# EAGLE library part MMA3202KEG (library gipi)
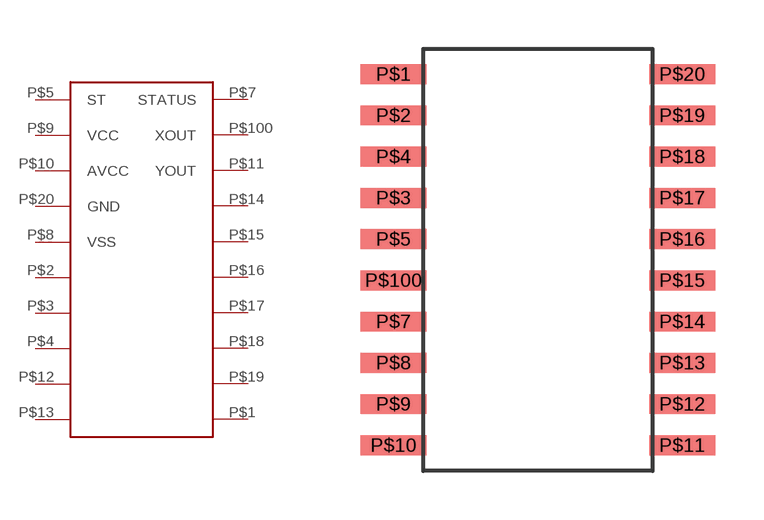
[diagram p0: symbol with the pads of SOIC20; footprint SOIC20]

Designator prefix U

## MMA3202KEG  [SOIC20]
P$1  NC  nc
P$2  GND2  nc
P$3  GND3  nc
P$4  GND4  nc
P$5  ST
P$7  STATUS
P$8  VSS
P$9  VCC  pwr
P$10  AVCC  pwr
P$11  YOUT  out
P$12  GND5
P$13  GND6
P$14  GND7  nc
P$15  GND8  nc
P$16  GND9  nc
P$17  GND10  nc
P$18  GND11  nc
P$19  GND12  nc
P$20  GND  pwr
P$100  XOUT  out

## Footprint SOIC20 (pad centres in mm)
Surface Mount Micromachined Accelerometer http://cache.freescale.com/files/sensors/doc/data_sheet/MMA3202KEG.pdf
smd 2.03 x 0.61: P$1 -4.445,5.715; P$2 -4.445,4.445; P$3 -4.445,1.905; P$4 -4.445,3.175; P$5 -4.445,0.635; P$7 -4.445,-1.905; P$8 -4.445,-3.175; P$9 -4.445,-4.445; P$10 -4.445,-5.715; P$11 4.445,-5.715; P$12 4.445,-4.445; P$13 4.445,-3.175; P$14 4.445,-1.905; P$15 4.445,-0.635; P$16 4.445,0.635; P$17 4.445,1.905; P$18 4.445,3.175; P$19 4.445,4.445; P$20 4.445,5.715; P$100 -4.445,-0.635